# Altium footprint library 2020-03-21_19-27-03.PcbLib: 3 footprints
Each footprint in its own frame and in the unit in brackets; x right, y up, seen from the top. Pads: shape width x height; smd on the part's side, far side on the other; paste and mask are expansions set on the pad; w line width, h text height; cw(c..) or ccw(c..) is an arc to the next point about the centre after c.
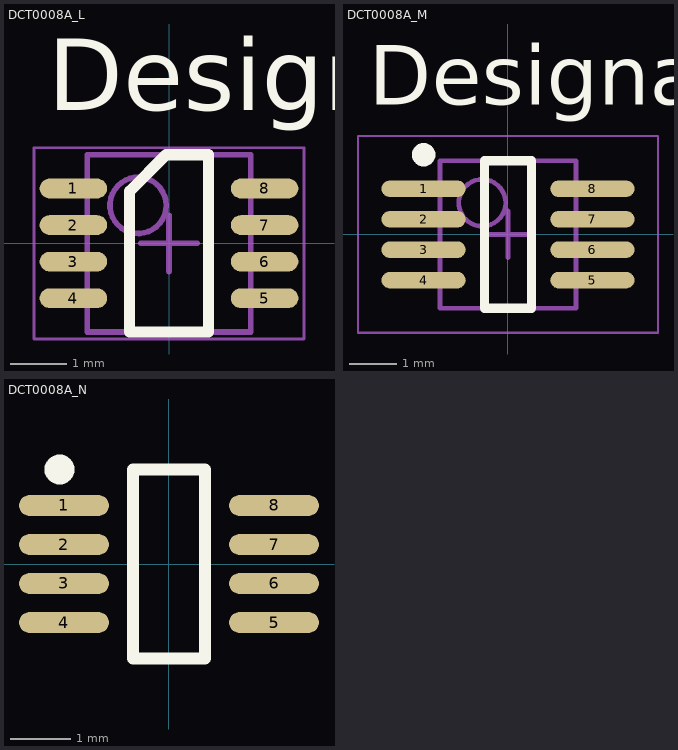
[diagram p0: the footprints below, top view; thin cyan lines are the x and y axes]

## DCT0008A_L [mm]
pads (8):
  oval 1.2x0.35 smd paste+0 mask+0.051: 1(-1.7,0.975) 2(-1.7,0.325) 3(-1.7,-0.325) 4(-1.7,-0.975) 5(1.7,-0.975) 6(1.7,-0.325) 7(1.7,0.325) 8(1.7,0.975)
Top Overlay:
  lines w0.2: -0.7,-1.575 0.7,-1.575 0.7,1.575 -0.05,1.575 -0.7,0.925 -0.7,-1.575
  text "Designator441" at -2.159,2.362 h1.27
Mechanical 13:
  circle w0.1: c-0.55,0.675 r0.5
  lines w0.1: -1.45,-1.575 -1.45,1.575 1.45,1.575 1.45,-1.575 -1.45,-1.575
  text ".Designator" at -1.016,-1.524 h1.27
Mechanical 15:
  lines w0.05: -2.4,-1.7 -2.4,1.7 2.4,1.7 2.4,-1.7 -2.4,-1.7
  lines w0.1: -0.5,0 0.5,0 ; 0,-0.5 0,0.5
3D body: height 0.25, standoff 0, extent 0,0 0.254,0.254

## DCT0008A_M [mm]
pads (8):
  oval 1.8x0.35 smd paste+0 mask+0.051: 1(-1.8,0.975) 2(-1.8,0.325) 3(-1.8,-0.325) 4(-1.8,-0.975) 5(1.8,-0.975) 6(1.8,-0.325) 7(1.8,0.325) 8(1.8,0.975)
Top Overlay:
  circle w0.25: c-1.8,1.7 r0.125
  lines w0.2: -0.5,-1.575 0.5,-1.575 0.5,1.575 -0.5,1.575 -0.5,-1.575
  text "Designator440" at -2.972,2.769 h1.27
Mechanical 13:
  circle w0.1: c-0.55,0.675 r0.5
  lines w0.1: -1.45,-1.575 1.45,-1.575 1.45,1.575 -1.45,1.575 -1.45,-1.575
  text ".Designator" at -1.016,-1.651 h1.27
Mechanical 15:
  lines w0.05: -3.2,-2.1 3.2,-2.1 3.2,2.1 -3.2,2.1 -3.2,-2.1
  lines w0.1: -0.5,0 0.5,0 ; 0,-0.5 0,0.5
3D body: height 0.25, standoff 0, extent 0,0 0.254,0.254

## DCT0008A_N [mm]
pads (8):
  oval 1.5x0.35 smd paste+0 mask+0.051: 1(-1.75,0.975) 2(-1.75,0.325) 3(-1.75,-0.325) 4(-1.75,-0.975) 5(1.75,-0.975) 6(1.75,-0.325) 7(1.75,0.325) 8(1.75,0.975)
Top Overlay:
  circle w0.25: c-1.825,1.575 r0.125
  lines w0.2: -0.6,-1.575 0.6,-1.575 0.6,1.575 -0.6,1.575 -0.6,-1.575
3D body: height 0.25, standoff 0, extent 0,0 0.254,0.254